# EAGLE library part ST7735LCD (library PulseOximeterECG_AU)
Ebay Link <https://www.ebay.com/itm/1-44-Colorful-SPI-TFT-LCD-Display-ST7735-128X128-Replace-Nokia-5110-3310-LCD/192212322440?hash=item2cc0bf4888:g:Cy0AAOSwXXxZOmn-#rpdCntId>
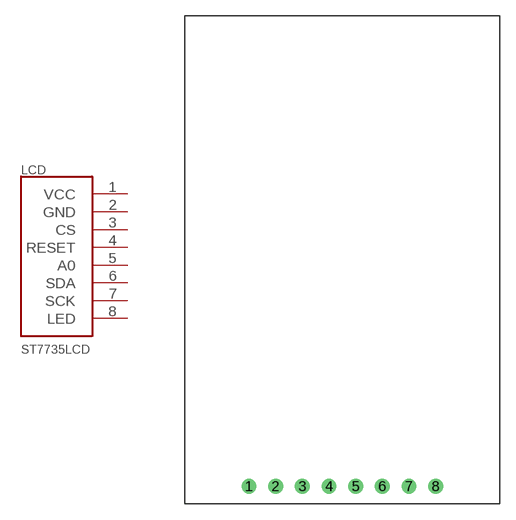
[diagram p2: symbol with the pads of ST7735LCD; footprint ST7735LCD]

Designator prefix LCD

## ST7735LCD  [ST7735LCD]
1  VCC
2  GND
3  CS
4  RESET
5  A0
6  SDA
7  SCK
8  LED

## Footprint ST7735LCD (pad centres in mm)
drill 0.9: 1 -8.89,-21.59; 2 -6.35,-21.59; 3 -3.81,-21.59; 4 -1.27,-21.59; 5 1.27,-21.59; 6 3.81,-21.59; 7 6.35,-21.59; 8 8.89,-21.59